# Altium schematic symbol library Intercom Gen2 Main PCB.SCHLIB: 188 symbols (part 2 of 2)
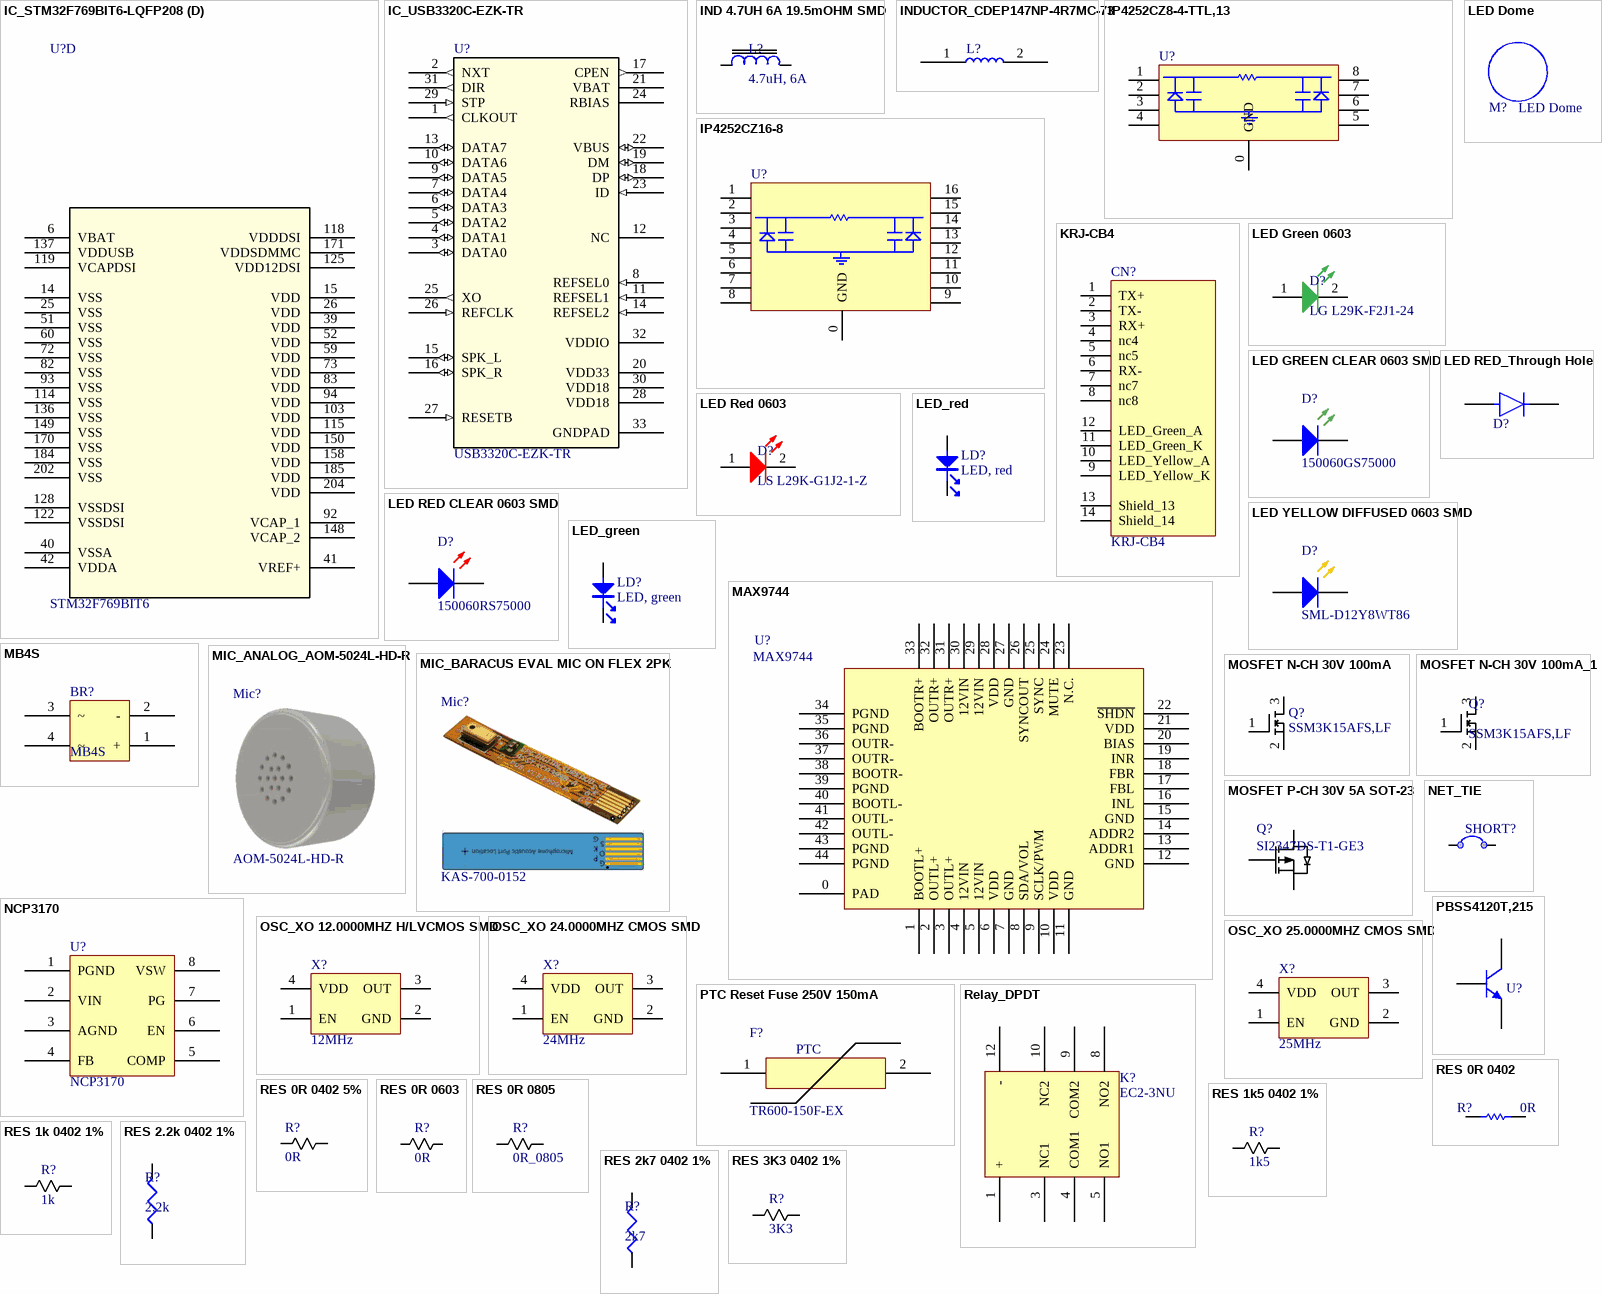
[diagram p5: symbols IC_STM32F769BIT6-LQFP208 to RES 3K3 0402 1%]

## OSC_XO 24.0000MHZ CMOS SMD
designator X?, comment 24MHz
24MHz XO (Standard) CMOS Oscillator 1.6V ~ 3.63V Standby (Power Down) 4-SMD, No Lead; Manufacturer: Kyocera International Inc. Electronic Components; Manufacturer Part Number: KC2520B24.0000C10E00; Manufacturer Link: https://global.kyocera.com/prdct/electro/product/pdf/kc2520b_c1_e.pdf; Value: 24MHz; RoHS: ROHS3 Compliant; Temperature Range: -10°C~70°C; Supplier 1: Digi-Key; Supplier 2: Mouser; Supplier Part Number 1: 478-4778-1-ND; Supplier Part Number 2: 815-ABM3B-24-B2
footprint OSC_SMD-4 (Kyocera KC2520B-C1 Series)
footprint HS-OSC_SMD-4 (HS variant for Kyocera KC2520B-C1 Series)
pins: 1 EN, 2 GND, 3 OUT, 4 VDD

## OSC_XO 25.0000MHZ CMOS SMD
designator X?, comment 25MHz
25MHz XO (Standard) CMOS Oscillator 1.6V ~ 3.63V Standby (Power Down) 4-SMD, No Lead; Manufacturer: Kyocera International Inc. Electronic Components; Manufacturer Part Number: KC2520B25.0000C10E00; Manufacturer Link: https://global.kyocera.com/prdct/electro/product/pdf/kc2520b_c1_e.pdf; Value: 25MHz; RoHS: ROHS3 Compliant; Temperature Range: -10°C~70°C; Supplier 1: Digi-Key; Supplier 2: Mouser; Supplier Part Number 1: 478-4780-1-ND; Supplier Part Number 2: 581-KC2520B25.0C10
footprint OSC_SMD-4 (Kyocera KC2520B-C1 Series)
footprint HS-OSC_SMD-4 (HS variant for Kyocera KC2520B-C1 Series)
pins: 1 EN, 2 GND, 3 OUT, 4 VDD

## PBSS4120T,215
designator U?  (value not drawn)
Bipolar (BJT) Transistor NPN 20V 1A 100MHz 480mW Surface Mount TO-236AB; Manufacturer: Nexperia USA Inc.; Value: PBSS4120T,215; Manufacturer Link: https://assets.nexperia.com/documents/data-sheet/PBSS4120T.pdf; Manufacturer Part Number: PBSS4120T,215; RoHS: 3; Temperature Range: 150°C (TJ); Supplier 1: Digi-Key; Supplier 2: Mouser; Supplier Part Number 1: 1727-3938-1-ND; Supplier Part Number 2: 771-PBSS4120T215
footprint SOT-23-3
pins: 1 B, 2 E, 3 C

## PTC Reset Fuse 250V 150mA
designator F?, comment TR600-150F-EX
Polymeric PTC Resettable Fuse 250V (600V Int) 150mA Ih Through Hole Radial, Disc; Manufacturer: Littelfuse Inc.; Value: TR600-150F-EX; Manufacturer Link: https://www.littelfuse.com/~/media/electronics/product_specifications/resettable_ptcs/littelfuse_ptc_tr600_150f_ex_product_specification.pdf.pdf; Manufacturer Part Number: TR600-150F-EX; RoHS: 3; Temperature Range: -40°C ~ 85°C; Supplier 1: Digi-Key; Supplier 2: Mouser; Supplier Part Number 1: TR600-150F-EX-ND; Supplier Part Number 2: 650-TR600-150F-EX
footprint PolySwitch TR600
pins: 1, 2
text: PTC

## Relay_DPDT
designator K?, comment EC2-3NU
RELAY GEN PURPOSE DPDT 2A 3VDC; Manufacturer: KEMET; Value: EC2-3NU; Manufacturer Link: https://api.kemet.com/component-edge/download/datasheet/EC2-3NU.pdf; Manufacturer Part Number: EC2-3NU; RoHS: 3; Temperature Range: -40°C ~ 85°C; Supplier 1: Digi-Key; Supplier 2: Mouser; Supplier Part Number 1: 399-11042-5-ND; Supplier Part Number 2: 80-EC2-3NU
footprint Relay_DPDT_EC2-3NU
pins: 1 +, 3 NC1, 4 COM1, 5 NO1, 8 NO2, 9 COM2, 10 NC2, 12 -

## RES 0R 0402
designator R?, comment 0R
RES 0.0 OHM 1/16W JUMP 0402 SMD; Manufacturer: Vishay Dale; Manufacturer Part Number: CRCW04020000Z0ED; Manufacturer Link: http://www.vishay.com/docs/20035/dcrcwe3.pdf; Value: 0R; Supplier 1: Digi-Key; Supplier 2: Mouser; Supplier Part Number 1: 541-0.0JCT-ND; Supplier Part Number 2: 71-CRCW0402-0-E3; RoHS: Y; Temperature Range: -55~+155°C
footprint RES_0402
footprint HS-RES_0402
pins: 1, 2

## RES 0R 0402 5%
designator R?, comment 0R
RES 0.0 OHM 1/16W JUMP 0402 SMD; Manufacturer: Vishay Dale; Manufacturer Part Number: CRCW04020000Z0ED; Manufacturer Link: http://www.vishay.com/docs/20035/dcrcwe3.pdf; Value: 0R; Supplier 1: Digi-Key; Supplier 2: Mouser; Supplier Part Number 1: 541-0.0JCT-ND; Supplier Part Number 2: 71-CRCW0402-0-E3; RoHS: ROHS3 Compliant; Temperature Range: -55°C ~ 155°C
footprint RES_0402
footprint HS-RES_0402
pins: 1, 2

## RES 0R 0603
designator R?, comment 0R
RES SMD 0.0OHM JUMPER  0603 1/10W; Manufacturer: Yageo; Manufacturer Part Number: RC0603FR-070RL; Manufacturer Link: http://www.yageo.com/documents/recent/PYu-RC_Group_51_RoHS_L_04.pdf; Value: 0R; Supplier 1: Digi-Key; Supplier 2: Mouser; Supplier Part Number 1: 311-0.0HRCT-ND; Supplier Part Number 2: 603-RC0603FR-070RL
footprint RES_0603 (0.18 spacing)
pins: 1, 2

## RES 0R 0805
designator R?, comment 0R_0805
0 Ohms Jumper 0.125W, 1/8W Chip Resistor 0805 (2012 Metric)  Thick Film; Manufacturer: Yageo; Manufacturer Part Number: RC0805JR-070RL; Manufacturer Link: https://www.yageo.com/upload/media/product/productsearch/datasheet/rchip/PYu-RC_Group_51_RoHS_L_10.pdf; Value: 0R_0805; Supplier 1: Digi-Key; Supplier 2: Mouser; Supplier Part Number 2: 603-RC0805JR-070RL; RoHS: ROHS3 Compliant; Temperature Range: -55°C ~ 155°C; Supplier Part Number 1: 311-0.0ARCT-ND
footprint HS-RES_0805
footprint RES_0805
pins: 1, 2

## RES 1k5 0402 1%
designator R?, comment 1k5
RES 1.50K OHM 1/16W 1% 0402 SMD; Manufacturer: Vishay Dale; Manufacturer Part Number: CRCW04021K50FKED; Manufacturer Link: http://www.vishay.com/docs/20035/dcrcwe3.pdf; Value: 1k5; Supplier 1: Digi-Key; Supplier 2: Mouser; Supplier Part Number 1: 541-1.50KLCT-ND; Supplier Part Number 2: 71-CRCW0402-1.5K
footprint RES_0402
footprint HS-RES_0402
pins: 1, 2

## RES 1k 0402 1%
designator R?, comment 1k
RES SMD 1K OHM 1% 1/16W 0402; Manufacturer: Vishay Dale; Manufacturer Part Number: CRCW04021K00FKED; Manufacturer Link: http://www.vishay.com/docs/20035/dcrcwe3.pdf; Value: 1k; Supplier 1: Digi-Key; Supplier Part Number 1: 541-1.00KLCT-ND; Supplier 2: Mouser; Supplier Part Number 2: 71-CRCW0402-1.0K
footprint RES_0402
footprint HS-RES_0402
pins: 1, 2

## RES 2.2k 0402 1%
designator R?, comment 2.2k
RES SMD 2.2K OHM 1% 1/16W 0402; Manufacturer: Vishay Dale; Manufacturer Part Number: CRCW04022K20FKED; Manufacturer Link: http://www.vishay.com/docs/20035/dcrcwe3.pdf; Value: 2.2k; Supplier 1: Digi-Key; Supplier 2: Mouser; Supplier Part Number 1: 541-2.20KLCT-ND; Supplier Part Number 2: 71-CRCW0402-2.2K-E3
footprint RES_0402
footprint HS-RES_0402
pins: 1, 2

## RES 2k7 0402 1%
designator R?, comment 2k7
RES SMD 2.7K OHM 1% 1/16W 0402; Manufacturer: Vishay Dale; Manufacturer Part Number: CRCW04022K70FKED; Manufacturer Link: http://www.vishay.com/docs/20035/dcrcwe3.pdf; Value: 2k7; Supplier 1: Digi-Key; Supplier 2: Mouser; Supplier Part Number 1: 541-2.70KLCT-ND; Supplier Part Number 2: 71-CRCW0402-2.7K
footprint RES_0402
footprint HS-RES_0402
pins: 1, 2

## RES 3K3 0402 1%
designator R?, comment 3K3
3.3 kOhms ±1% 0.1W, 1/10W Chip Resistor 0402 (1005 Metric) Automotive AEC-Q200 Thick Film; Manufacturer: Panasonic Electronic Components; Manufacturer Part Number: ERJ-2RKF3301X; Manufacturer Link: https://industrial.panasonic.com/cdbs/www-data/pdf/RDA0000/AOA0000C304.pdf; Value: 3K3; RoHS: Y; Temperature Range: -55°C ~ 155°C; Supplier 1: Digi-Key; Supplier 2: Mouser; Supplier Part Number 1: P3.30KLCT-ND; Supplier Part Number 2: 667-ERJ-2RKF3301X
footprint RES_0402
footprint HS-RES_0402
pins: 1, 2

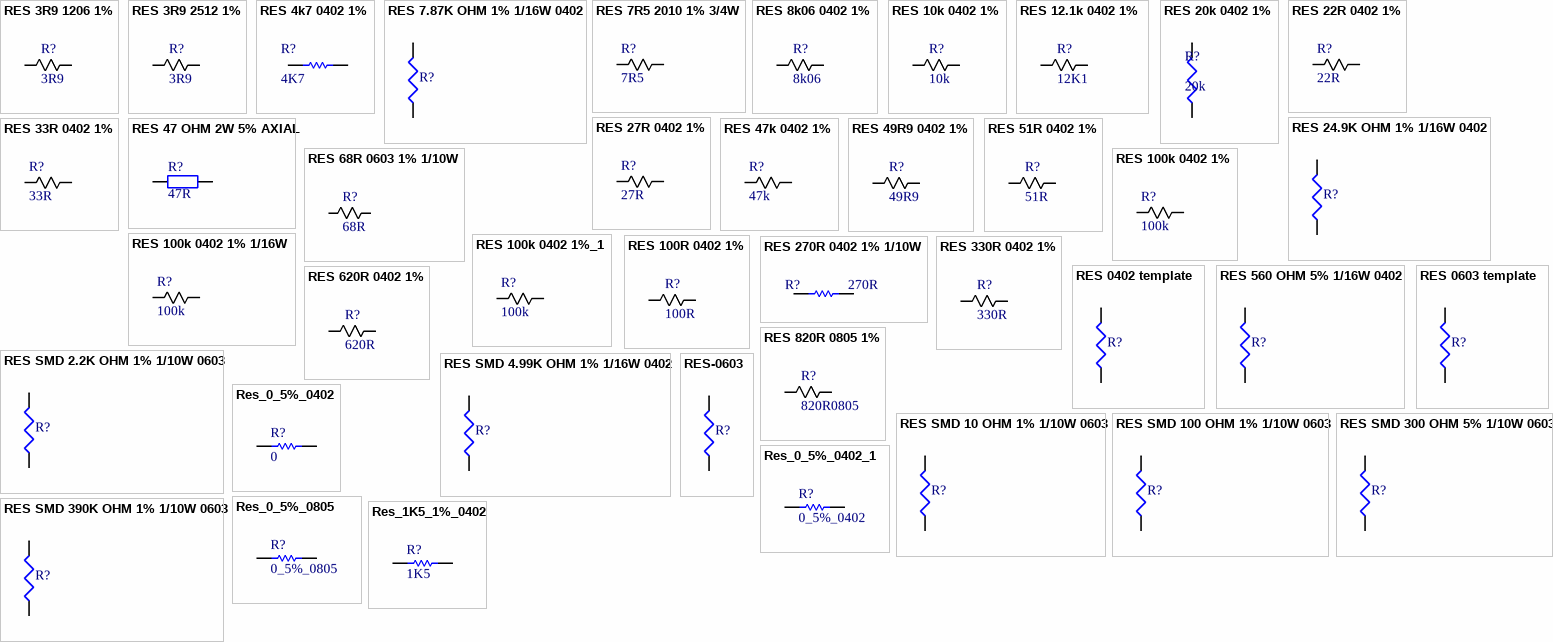
[diagram p3: symbols RES 3R9 1206 1% to Res_1K5_1%_0402]

## RES 3R9 1206 1%
designator R?, comment 3R9
RES SMD 3.9 OHM 1% 3/4W 1206; Manufacturer: Vishay Dale; Manufacturer Part Number: CRCW12063R90FKEAHP; Manufacturer Link: https://www.vishay.com/docs/20043/crcwhpe3.pdf; Value: 3R9; Temperature Range: -55°C~155°C; RoHS: ROHS3; Supplier 1: Digi-Key; Supplier 2: Mouser; Supplier Part Number 1: 541-3.90UCT-ND; Supplier Part Number 2: 603-RC0603FR-073R9L
footprint RES_1206
pins: 1, 2

## RES 3R9 2512 1%
designator R?, comment 3R9
RES SMD 3R9 OHM 1% 1W 2512; Manufacturer: Vishay Dale; Manufacturer Part Number: CRCW25123R90FKEG; Manufacturer Link: https://www.vishay.com/docs/20035/dcrcwe3.pdf; Value: 3R9; Temperature Range: -55°C~155°C; RoHS: ROHS3; Supplier 1: Digi-Key; Supplier 2: Mouser; Supplier Part Number 1: 541-3.90AFCT-ND; Supplier Part Number 2: 71-CRCW25123R90FKEG
footprint RES_2512
pins: 1, 2

## RES 4k7 0402 1%
designator R?, comment 4K7
RES SMD 4.7K OHM 1% 1/16W 0402; Manufacturer: Yageo; Manufacturer Part Number: RC0402FR-074K7L; Manufacturer Link: http://www.yageo.com/documents/recent/PYu-RC_Group_51_RoHS_L_10.pdf; Value: 4K7; RoHS: Y; Temperature Range: -55°C ~ 155°C; Supplier 1: Digi-Key; Supplier Part Number 1: 311-4.7KLRCT-ND; Supplier 2: Mouser; Supplier Part Number 2: 603-RC0603FR-074K7L
footprint RES_0402
footprint HS-RES_0402
pins: 1, 2

## RES 7.87K OHM 1% 1/16W 0402
designator R?, comment 7K87  (value not drawn)
7.87 kOhms ±1% 0.063W, 1/16W Chip Resistor 0402 (1005 Metric) Automotive AEC-Q200 Thick Film; Manufacturer: Stackpole Electronics Inc; Manufacturer Part Number: RMCF0402FT7K87; Value: 7K87; Manufacturer Link: https://www.seielect.com/catalog/sei-rmcf_rmcp.pdf; RoHS: 3; Temperature Range: -55°C ~ 155°C; Supplier 1: Digi-Key; Supplier 2: Arrow Electronics; Supplier Part Number 1: RMCF0402FT7K87CT-ND; Supplier Part Number 2: RMCF0402FT7K87
footprint RES_0402
footprint HS-RES_0402
pins: 1, 2

## RES 7R5 2010 1% 3/4W
designator R?, comment 7R5
7.5 Ohms ±1% 0.75W, 3/4W Chip Resistor 2010 (5025 Metric) Automotive AEC-Q200 Thick Film; Manufacturer: Stackpole Electronics Inc; Manufacturer Part Number: RMCF2010FT7R50CT-ND; Manufacturer Link: https://www.seielect.com/catalog/sei-rmcf_rmcp.pdf; Value: 7R5; Temperature Range: -55°C~155°C; RoHS: ROHS3; Supplier 1: Digi-Key; Supplier 2: Arrow Electronics; Supplier Part Number 1: RMCF2010FT7R50CT-ND; Supplier Part Number 2: ERJ8BQF7R5V
footprint RES_2010
pins: 1, 2

## RES 8k06 0402 1%
designator R?, comment 8k06
RES 6.65K OHM 1/16W 1% 0402 SMD; Manufacturer: Vishay Dale; Manufacturer Part Number: CRCW04028K06FKED; Manufacturer Link: http://www.vishay.com/docs/20035/dcrcwe3.pdf; Value: 8k06; RoHS: ROHS3 Compliant; Temperature Range: -55°C ~ 155°C; Supplier 1: Digi-Key; Supplier 2: Mouser; Supplier Part Number 1: 541-8.06KLCT-ND; Supplier Part Number 2: 71-CRCW0402-8.06K-E3
footprint RES_0402
footprint HS-RES_0402
pins: 1, 2

## RES 10k 0402 1%
designator R?, comment 10k
RES 10.0K OHM 1/16W 1% 0402 SMD; Manufacturer: Vishay Dale; Manufacturer Part Number: CRCW040210K0FKED; Manufacturer Link: http://www.vishay.com/docs/20035/dcrcwe3.pdf; Value: 10k; Supplier 1: Digi-Key; Supplier Part Number 2: 71-CRCW0402-10K-E3; Supplier 2: Mouser; Supplier Part Number 1: 541-10.0KLCT-ND
footprint RES_0402
footprint HS-RES_0402
pins: 1, 2

## RES 12.1k 0402 1%
designator R?, comment 12K1
12.1 kOhms ±1% 0.1W, 1/10W Chip Resistor 0402 (1005 Metric) Automotive AEC-Q200 Thick Film; Manufacturer: Panasonic Electronic Components; Manufacturer Part Number: ERJ-2RKF1212X; Manufacturer Link: https://b2b-api.panasonic.eu/file_stream/pids/fileversion/1263; Value: 12K1; RoHS: ROHS3 Compliant; Temperature Range: -55°C ~ 155°C; Supplier 1: Digi-Key; Supplier 2: Newark; Supplier Part Number 1: P12.1KLCT-ND; Supplier Part Number 2: 73T6472
footprint RES_0402
footprint HS-RES_0402
pins: 1, 2

## RES 20k 0402 1%
designator R?, comment 20k
RES 20.0K OHM 1/16W 1% 0402 SMD; Manufacturer: Vishay Dale; Manufacturer Part Number: CRCW040220K0FKED; Manufacturer Link: http://www.vishay.com/docs/20035/dcrcwe3.pdf; Value: 20k; Supplier 1: Digi-Key; Supplier 2: Mouser; Supplier Part Number 1: 541-20.0KLCT-ND; Supplier Part Number 2: 71-CRCW0402-20K
footprint RES_0402
footprint HS-RES_0402
pins: 1, 2

## RES 22R 0402 1%
designator R?, comment 22R
RES SMD 22 OHM 1% 1/16W 0402; Manufacturer: Vishay Dale; Manufacturer Part Number: CRCW040222R0FKED; Manufacturer Link: http://www.vishay.com/docs/20035/dcrcwe3.pdf; Value: 22R; Supplier 1: Digi-Key; Supplier 2: Mouser; Supplier 3: Newark; Supplier Part Number 1: 541-22.0LCT-ND; Supplier Part Number 2: 71-CRCW0402-22-E3; Supplier Part Number 3: 52K6847
footprint RES_0402
footprint HS-RES_0402
pins: 1, 2

## RES 24.9K OHM 1% 1/16W 0402
designator R?, comment 24K9  (value not drawn)
24.9 kOhms ±1% 0.063W, 1/16W Chip Resistor 0402 (1005 Metric) Automotive AEC-Q200 Thick Film; Manufacturer: Stackpole Electronics Inc; Manufacturer Part Number: RMCF0402FT24K9; Value: 24K9; Manufacturer Link: https://www.seielect.com/catalog/sei-rmcf_rmcp.pdf; RoHS: 3; Temperature Range: -55°C ~ 155°C; Supplier 1: Digi-Key; Supplier 2: Arrow Electronics; Supplier Part Number 1: RMCF0402FT24K9CT-ND; Supplier Part Number 2: RMCF0402FT24K9
footprint RES_0402
footprint HS-RES_0402
pins: 1, 2

## RES 27R 0402 1%
designator R?, comment 27R
27 Ohms ±1% 0.063W, 1/16W Chip Resistor 0402 (1005 Metric) Automotive AEC-Q200 Thick Film; Manufacturer: Vishay Dale; Manufacturer Part Number: CRCW040227R0FKED; Manufacturer Link: http://www.vishay.com/docs/20035/dcrcwe3.pdf; Value: 27R; RoHS: ROHS3 Compliant; Temperature Range: -55°C ~ 155°C; Supplier 1: Digi-Key; Supplier 2: Mouser; Supplier Part Number 1: 541-27.0LCT-ND; Supplier Part Number 2: 71-CRCW040227R0FKED
footprint RES_0402
footprint HS-RES_0402
pins: 1, 2

## RES 33R 0402 1%
designator R?, comment 33R
RES SMD 33 OHM 1% 1/16W 0402; Manufacturer: Vishay Dale; Manufacturer Part Number: CRCW040233R0FKED; Manufacturer Link: https://www.vishay.com/docs/20035/dcrcwe3.pdf; Value: 33R; RoHS: ROHS3 Compliant; Temperature Range: -55°C ~ 155°C; Supplier 1: Digi-Key; Supplier 2: Mouser; Supplier Part Number 1: 541-33.0LCT-ND; Supplier Part Number 2: 71-CRCW0402-33-E3
footprint RES_0402
footprint HS-RES_0402
pins: 1, 2

## RES 47 OHM 2W 5% AXIAL
designator R?, comment 47R
47 Ohms ±5% 2W Through Hole Resistor Axial Flame Retardant Coating, Safety Metal Oxide Film; Manufacturer: Stackpole Electronics Inc; Manufacturer Part Number: RSF2JT47R0; Value: 47R; Manufacturer Link: https://www.seielect.com/catalog/sei-rsf_rsmf.pdf; RoHS: 3; Temperature Range: -55°C ~ 235°C; Supplier 1: Digi-Key; Supplier 2: Arrow Electronics; Supplier Part Number 1: RSF2JT47R0CT-ND; Supplier Part Number 2: RSF2JT47R0
footprint AXIAL-0.4 (Axial Device, Thru-Hole; 2 Leads; 0.4 in Pin Spacing)
footprint Axial 0.6
pins: 1, 2

## RES 47k 0402 1%
designator R?, comment 47k
RES SMD 47K OHM 1% 1/16W 0402; Manufacturer: Vishay Dale; Manufacturer Part Number: CRCW040247K0FKED; Manufacturer Link: http://www.vishay.com/docs/20035/dcrcwe3.pdf; Value: 47k; Supplier 1: Digi-Key; Supplier 2: Mouser; Supplier Part Number 1: 541-47.0KLCT-ND; Supplier Part Number 2: 71-CRCW0402-47K-E3; RoHS: ROHS3 Compliant; Temperature Range: -55°C ~ 155°C
footprint RES_0402
footprint HS-RES_0402
pins: 1, 2

## RES 49R9 0402 1%
designator R?, comment 49R9
49.9 Ohms ±1% 0.063W, 1/16W Chip Resistor 0402 (1005 Metric) Moisture Resistant Thick Film; Manufacturer: Yageo; Manufacturer Part Number: RC0402FR-0749R9L; Manufacturer Link: https://www.yageo.com/upload/media/product/productsearch/datasheet/rchip/PYu-RC_Group_51_RoHS_L_10.pdf; Value: 49R9; RoHS: ROHS3 Compliant; Temperature Range: -55°C ~ 155°C; Supplier 1: Digi-Key; Supplier 2: Mouser; Supplier Part Number 1: 311-49.9LRCT-ND; Supplier Part Number 2: 603-RC0402FR-0749R9L
footprint RES_0402
footprint HS-RES_0402
pins: 1, 2

## RES 51R 0402 1%
designator R?, comment 51R
RES SMD 51 OHM 1% 1/16W 0402; Manufacturer: Vishay Dale; Manufacturer Part Number: CRCW040251R0FKED; Manufacturer Link: http://www.vishay.com/docs/20035/dcrcwe3.pdf; Value: 51R; Supplier 1: Digi-Key; Supplier 2: Mouser; Supplier 3: Newark; Supplier Part Number 1: 541-51.0LCT-ND; Supplier Part Number 2: 71-CRCW040251R0FKED; Supplier Part Number 3: 72M6802
footprint RES_0402
footprint HS-RES_0402
pins: 1, 2

## RES 68R 0603 1% 1/10W
designator R?, comment 68R
68 Ohms ±1% 0.1W, 1/10W Chip Resistor 0603 (1608 Metric)  Thick Film; Manufacturer: Yageo; Manufacturer Part Number: RC0603FR-0768RL; Manufacturer Link: https://www.yageo.com/upload/media/product/productsearch/datasheet/rchip/PYu-RC_Group_51_RoHS_L_11.pdf; Value: 68R; Temperature Range: -55°C ~ 155°C; RoHS: ROHS3 Compliant; Supplier 1: Digi-Key; Supplier 2: Mouser; Supplier Part Number 1: 311-68.0HRCT-ND; Supplier Part Number 2: 603-RC0603FR-0768RL
footprint RES_0603 (0.18 spacing)
pins: 1, 2

## RES 100k 0402 1%
designator R?, comment 100k
RES 100K OHM 1/16W 1% 0402 SMD; Manufacturer: Vishay Dale; Manufacturer Part Number: CRCW0402100KFKED; Manufacturer Link: http://www.vishay.com/docs/20035/dcrcwe3.pdf; Value: 100k; Supplier 1: Digi-Key; Supplier 2: Mouser; Supplier Part Number 1: 541-100KLCT-ND; Supplier Part Number 2: 71-CRCW0402-100K; RoHS: ROHS3 Compliant; Temperature Range: -55°C ~ 155°C
footprint RES_0402
footprint HS-RES_0402
pins: 1, 2

## RES 100k 0402 1% 1/16W
designator R?, comment 100k
RES 100K OHM 1/16W 1% 0402 SMD; Manufacturer: Vishay Dale; Manufacturer Part Number: CRCW0402100KFKED; Temperature Coefficient: ±100ppm/°C; Manufacturer Link: http://www.vishay.com/docs/20035/dcrcwe3.pdf; Value: 100k; Supplier 1: Digi-Key; Supplier 2: Mouser; Supplier Part Number 1: 541-100KLCT-ND; Supplier Part Number 2: 71-CRCW0402-100K; Temperature Range: -55~+155°C; RoHS: Y
footprint RES_0402
footprint HS-RES_0402
pins: 1, 2

## RES 100k 0402 1%_1
designator R?, comment 100k
RES 100K OHM 1/16W 1% 0402 SMD; Manufacturer: Vishay Dale; Manufacturer Part Number: CRCW0402100KFKED; Manufacturer Link: http://www.vishay.com/docs/20035/dcrcwe3.pdf; Value: 100k; Supplier 1: Digi-Key; Supplier 2: Mouser; Supplier Part Number 1: 541-100KLCT-ND; Supplier Part Number 2: 71-CRCW0402-100K
footprint RES_0402
footprint HS-RES_0402
pins: 1, 2

## RES 100R 0402 1%
designator R?, comment 100R
RES SMD 100 OHM 1% 1/16W 0402; Manufacturer: Vishay Dale; Manufacturer Part Number: CRCW0402100RFKED; Manufacturer Link: http://www.vishay.com/docs/20035/dcrcwe3.pdf; Value: 100R; Supplier 1: Digi-Key; Supplier 2: Mouser; Supplier 3: Newark; Supplier Part Number 1: 541-100LCT-ND; Supplier Part Number 2: 71-CRCW0402-100-E3; Supplier Part Number 3: 52K6609
footprint RES_0402
footprint HS-RES_0402
pins: 1, 2

## RES 270R 0402 1% 1/10W
designator R?, comment 270R
270 Ohms ±1% 0.1W, 1/10W Chip Resistor 0402 (1005 Metric) Automotive AEC-Q200 Thick Film; Manufacturer: Panasonic Electronic Components; Manufacturer Part Number: ERJ-2RKF2700X; Manufacturer Link: https://industrial.panasonic.com/cdbs/www-data/pdf/RDA0000/AOA0000C304.pdf; Value: 270R; RoHS: Y; Temperature Range: -55~+155°C; Supplier 1: Digi-Key; Supplier Part Number 1: P270LCT-ND; Supplier 2: Mouser; Supplier Part Number 2: 667-ERJ-2RKF2700X
footprint RES_0402
footprint HS-RES_0402
pins: 1, 2

## RES 330R 0402 1%
designator R?, comment 330R
330 Ohms ±1% 0.063W, 1/16W Chip Resistor 0402 (1005 Metric) Moisture Resistant Thick Film; Manufacturer: Yageo; Manufacturer Part Number: RC0402FR-07330RL; Manufacturer Link: https://www.yageo.com/upload/media/product/productsearch/datasheet/rchip/PYu-RC_Group_51_RoHS_L_10.pdf; Value: 330R; RoHS: ROHS3 Compliant; Temperature Range: -55°C ~ 155°C; Supplier 1: Digi-Key; Supplier 2: Mouser; Supplier Part Number 1: 311-330HRCT-ND; Supplier Part Number 2: 603-RC0603FR-07330RL
footprint RES_0402
footprint HS-RES_0402
pins: 1, 2

## RES 0402 template
designator R?
footprint RES_0402
footprint HS-RES_0402
pins: 1, 2

## RES 560 OHM 5% 1/16W 0402
designator R?, comment 560R  (value not drawn)
560 Ohms ±5% 0.063W, 1/16W Chip Resistor 0402 (1005 Metric)  Thick Film; Manufacturer: Yageo; Manufacturer Part Number: RC0402JR-07560RL; Value: 560R; Manufacturer Link: https://www.yageo.com/upload/media/product/productsearch/datasheet/rchip/PYu-RC_Group_51_RoHS_L_10.pdf; RoHS: 3; Temperature Range: -55°C ~ 155°C; Supplier 1: Digi-Key; Supplier 2: Mouser; Supplier Part Number 1: 311-560JRCT-ND; Supplier Part Number 2: 603-RC0402JR-07560RL
footprint RES_0402
footprint HS-RES_0402
pins: 1, 2

## RES 0603 template
designator R?
footprint RES-0603
pins: 1, 2

## RES 620R 0402 1%
designator R?, comment 620R
620 Ohms ±1% 0.063W, 1/16W Chip Resistor 0402 (1005 Metric) Automotive AEC-Q200 Thick Film; Manufacturer: Vishay Dale; Manufacturer Part Number: CRCW0402620RFKED; Manufacturer Link: http://www.vishay.com/docs/20035/dcrcwe3.pdf; Value: 620R; Temperature Range: -55°C ~ 155°C; RoHS: Y; Supplier 1: Digi-Key; Supplier 2: Mouser; Supplier Part Number 1: 541-620LCT-ND; Supplier Part Number 2: 667-ERA-6AEB621V
footprint RES_0402
footprint HS-RES_0402
pins: 1, 2

## RES 820R 0805 1%
designator R?, comment 820R0805
820 Ohms ±1% 0.125W, 1/8W Chip Resistor 0805 (2012 Metric) Automotive AEC-Q200 Thick Film; Manufacturer: Vishay Dale; Manufacturer Part Number: CRCW0805820RFKEA; Manufacturer Link: http://www.vishay.com/docs/20035/dcrcwe3.pdf; Value: 820R0805; Temperature Range: -55°C ~ 155°C; RoHS: Y; Supplier 1: Digi-Key; Supplier 2: Mouser; Supplier Part Number 1: 541-820CCT-ND; Supplier Part Number 2: 71-CRCW0402-820-E3
footprint RES-0805
pins: 1, 2

## RES SMD 2.2K OHM 1% 1/10W 0603
designator R?, comment 2k2  (value not drawn)
2.2 kOhms ±1% 0.1W, 1/10W Chip Resistor 0603 (1608 Metric)  Thick Film; Manufacturer: Yageo; Manufacturer Part Number: RC0603FR-072K2L; Value: 2k2; Manufacturer Link: https://www.yageo.com/upload/media/product/productsearch/datasheet/rchip/PYu-RC_Group_51_RoHS_L_10.pdf; Supplier 1: Digi-Key; Supplier 2: Mouser; Supplier Part Number 1: 311-2.20KHRCT-ND; Supplier Part Number 2: 603-RC0603FR-072K2L
footprint RES-0603
pins: 1, 2

## RES SMD 4.99K OHM 1% 1/16W 0402
designator R?, comment 4K99  (value not drawn)
4.99 kOhms ±1% 0.063W, 1/16W Chip Resistor 0402 (1005 Metric)  Thick Film; Manufacturer: Yageo; Manufacturer Part Number: RC0402FR-074K99L; Value: 4K99; Manufacturer Link: https://www.yageo.com/upload/media/product/productsearch/datasheet/rchip/PYu-RC_Group_51_RoHS_L_10.pdf; RoHS: 3; Temperature Range: -55°C ~ 155°C; Supplier 1: Digi-Key; Supplier 2: Mouser; Supplier Part Number 1: 311-4.99KLRCT-ND; Supplier Part Number 2: 603-RC0402FR-074K99L
footprint RES_0402
footprint HS-RES_0402
pins: 1, 2

## RES SMD 10 OHM 1% 1/10W 0603
designator R?, comment 10R  (value not drawn)
10 Ohms ±1% 0.1W, 1/10W Chip Resistor 0603 (1608 Metric)  Thick Film; Manufacturer: Yageo; Manufacturer Part Number: RC0603FR-0710RL; Value: 10R; Manufacturer Link: https://www.yageo.com/upload/media/product/productsearch/datasheet/rchip/PYu-RC_Group_51_RoHS_L_10.pdf; RoHS: 3; Temperature Range: -55°C ~ 155°C; Supplier 1: Digi-Key; Supplier 2: Mouser; Supplier Part Number 1: 311-10.0HRCT-ND; Supplier Part Number 2: 603-RC0603FR-0710RL
footprint RES-0603
pins: 1, 2

## RES SMD 100 OHM 1% 1/10W 0603
designator R?, comment 100R  (value not drawn)
100 Ohms ±1% 0.1W, 1/10W Chip Resistor 0603 (1608 Metric)  Thick Film; Manufacturer: Yageo; Manufacturer Part Number: RC0603FR-07100RL; Value: 100R; Manufacturer Link: https://www.yageo.com/upload/media/product/productsearch/datasheet/rchip/PYu-RC_Group_51_RoHS_L_10.pdf; RoHS: 3; Temperature Range: -55°C ~ 155°C; Supplier 1: Digi-Key; Supplier 2: Mouser; Supplier Part Number 1: 311-100HRCT-ND; Supplier Part Number 2: 603-RC0603FR-07100RL
footprint RES-0603
pins: 1, 2

## RES SMD 300 OHM 5% 1/10W 0603
designator R?, comment 300R  (value not drawn)
300 Ohms ±5% 0.1W, 1/10W Chip Resistor 0603 (1608 Metric)  Thick Film; Manufacturer: Yageo; Manufacturer Part Number: RC0603JR-07300RL; Value: 300R; Manufacturer Link: https://www.yageo.com/upload/media/product/productsearch/datasheet/rchip/PYu-RC_Group_51_RoHS_L_10.pdf; RoHS: 3; Temperature Range: -55°C ~ 155°C; Supplier 1: Digi-Key; Supplier 2: Mouser; Supplier Part Number 1: 311-300GRCT-ND; Supplier Part Number 2: 603-RC0603JR-07300RL
footprint RES-0603
pins: 1, 2

## RES SMD 390K OHM 1% 1/10W 0603
designator R?, comment 390K  (value not drawn)
390 kOhms ±1% 0.1W, 1/10W Chip Resistor 0603 (1608 Metric)  Thick Film; Manufacturer: Yageo; Manufacturer Part Number: RC0603FR-07390KL; Value: 390K; Manufacturer Link: https://www.yageo.com/upload/media/product/productsearch/datasheet/rchip/PYu-RC_Group_51_RoHS_L_10.pdf; RoHS: 3; Temperature Range: -55°C ~ 155°C; Supplier 1: Digi-Key; Supplier 2: Mouser; Supplier Part Number 1: 311-390KHRCT-ND; Supplier Part Number 2: 603-RC0603FR-07390KL
footprint RES-0603
pins: 1, 2

## RES-0603
designator R?  (value not drawn)
Value: 24.9K
footprint RES-0603
pins: 1, 2

## Res_0_5%_0402
designator R?, comment 0
Resistor,0,0402,5%,YAGEO; Manuf_Part_1: RC0402JR-070RL; Order: 2363467; Value: 0; ECCN_US/EU: n/a; Manuf_1: YAGEO; Distrib: FARNELL
footprint 0402R
pins: 1, 2

## Res_0_5%_0402_1
designator R?, comment 0_5%_0402
Resistor,0,0402,5%,YAGEO; Manuf_Part_1: RC0402JR-070RL; Value: 0; Order: 2363467; ECCN_US/EU: n/a; Manuf_1: YAGEO; Distrib: FARNELL
footprint 0402R
pins: 1, 2

## Res_0_5%_0805
designator R?, comment 0_5%_0805
Resistor,0,0805,5%,YAGEO; Manuf_Part_1: RC0805JR-070RL; Value: 0; Order: 2363489; ECCN_US/EU: n/a; Manuf_1: YAGEO
footprint 0805R (Footprint not found)
pins: 1, 2

## Res_1K5_1%_0402
designator R?, comment 1K5
Resistor,1K5,0402,1%,YAGEO; Manuf_Part_1: RC0402FR-071K5L; Value: 1K5; Manuf_1: YAGEO; Order: RC0402FR-071K5L; ECCN_US/EU: n/a; Distrib: FARNELL
footprint 0402R
footprint 0603R
footprint 0805R (Footprint not found)
footprint 0603R-GS
footprint 1206R (Footprint not found)
pins: 1, 2

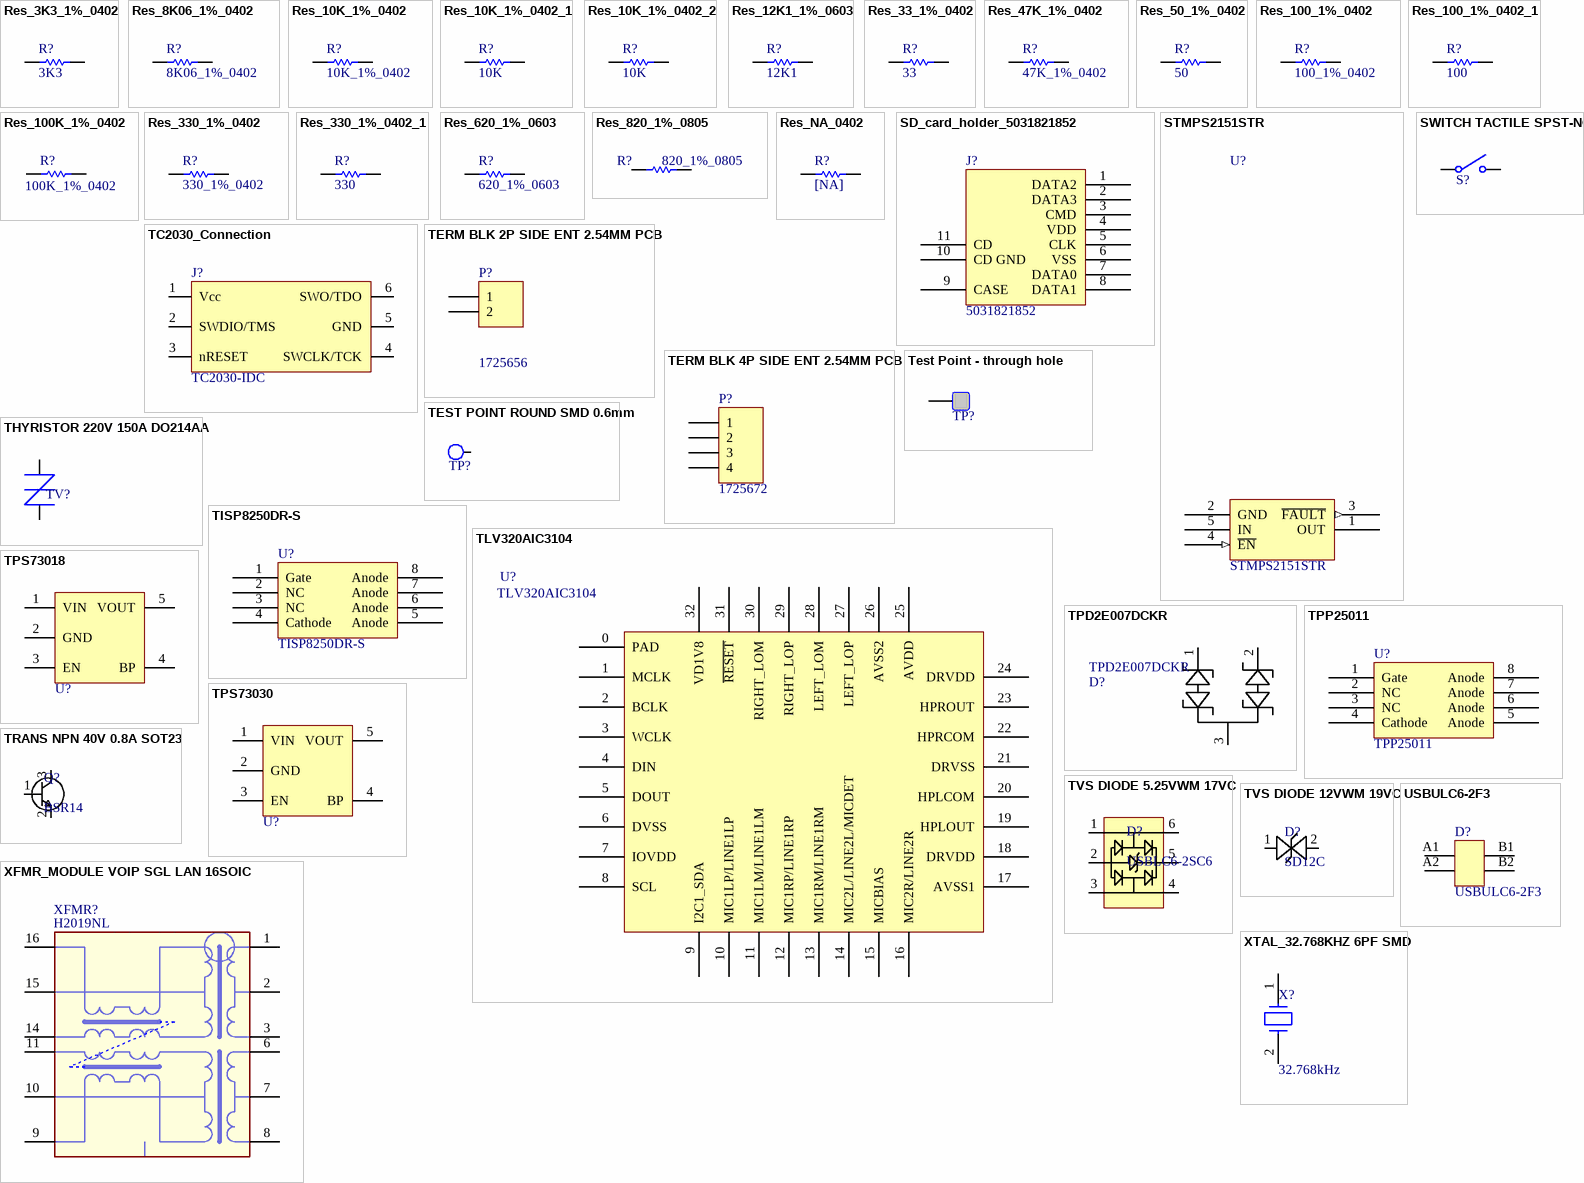
[diagram p4: symbols Res_3K3_1%_0402 to XTAL_32.768KHZ 6PF SMD]

## Res_3K3_1%_0402
designator R?, comment 3K3
Resistor,3K3,0402,1%,YAGEO; Manuf_Part_1: RC0402FR-073K3L; Value: 3K3; Manuf_1: YAGEO; Order: *; ECCN_US/EU: n/a; Distrib: FARNELL
footprint 0402R
footprint 0603R
footprint 0805R (Footprint not found)
footprint 0603R-GS
footprint 1206R (Footprint not found)
pins: 1, 2

## Res_8K06_1%_0402
designator R?, comment 8K06_1%_0402
Resistor,8K06,0402,1%,YAGEO; Manuf_Part_1: RC0402FR-078K06L; Value: 8K06; Manuf_1: YAGEO; Order: RC0402FR-078K06L; ECCN_US/EU: n/a; Distrib: DIGIKEY
footprint 0402R
footprint 0603R
footprint 0805R (Footprint not found)
footprint 0603R-GS
footprint 1206R (Footprint not found)
pins: 1, 2

## Res_10K_1%_0402
designator R?, comment 10K_1%_0402
Resistor,10K,0402,1%,YAGEO; Manuf_Part_1: RC0402FR-0710KL; Value: 10K; Manuf_1: YAGEO; Order: RC0402FR-0710KL; ECCN_US/EU: n/a
footprint 0402R
footprint 0603R
footprint 0805R (Footprint not found)
footprint 0603R-GS
footprint 1206R (Footprint not found)
pins: 1, 2

## Res_10K_1%_0402_1
designator R?, comment 10K
Resistor,10K,0402,1%,YAGEO; Manuf_Part_1: RC0402FR-0710KL; Value: 10K; Manuf_1: YAGEO; Order: RC0402FR-0710KL; ECCN_US/EU: n/a
footprint 0402R
footprint 0603R
footprint 0805R (Footprint not found)
footprint 0603R-GS
footprint 1206R (Footprint not found)
pins: 1, 2

## Res_10K_1%_0402_2
designator R?, comment 10K
Resistor,10K,0402,1%,YAGEO; Manuf_Part_1: RC0402FR-0710KL; Value: 10K; Manuf_1: YAGEO; Order: RC0402FR-0710KL; ECCN_US/EU: n/a
footprint 0402R
footprint 0603R
footprint 0805R (Footprint not found)
footprint 0603R-GS
footprint 1206R (Footprint not found)
pins: 1, 2

## Res_12K1_1%_0603
designator R?, comment 12K1
Resistor,12K1,0603,1%,VISHAY; Manuf_Part_1: MCT 0603-50 1% P5 12K1; Order: 2325243; Value: 12K1; ECCN_US/EU: n/a; Manuf_1: VISHAY; Distrib: FARNELL
footprint 0603R
footprint 0603R-GS
pins: 1, 2

## Res_33_1%_0402
designator R?, comment 33
Resistor,33,0402,1%,YAGEO; Manuf_Part_1: RC0402FR-0733RL; Value: 33; Manuf_1: YAGEO; Order: *; ECCN_US/EU: n/a; Distrib: FARNELL
footprint 0402R
footprint 0603R
footprint 0805R (Footprint not found)
footprint 0603R-GS
footprint 1206R (Footprint not found)
pins: 1, 2

## Res_47K_1%_0402
designator R?, comment 47K_1%_0402
Resistor,47K,0402,1%,YAGEO; Manuf_Part_1: RC0402FR-0747KL; Order: 9239430; Value: 47K; Manuf_1: YAGEO; ECCN_US/EU: n/a; Distrib: FARNELL
footprint 0402R
footprint 0603R
footprint 0805R (Footprint not found)
footprint 0603R-GS
footprint 1206R (Footprint not found)
pins: 1, 2

## Res_50_1%_0402
designator R?, comment 50
Resistor,50,0402,1%,YAGEO; Manuf_Part_1: RC0402FR-0750RL; Value: 50; Manuf_1: YAGEO; Order: *; ECCN_US/EU: n/a; Distrib: FARNELL
footprint 0402R
footprint 0603R
footprint 0805R (Footprint not found)
footprint 0603R-GS
footprint 1206R (Footprint not found)
pins: 1, 2

## Res_100_1%_0402
designator R?, comment 100_1%_0402
Resistor,100,0402,1%,YAGEO; Manuf_Part_1: RC0402FR-07100RL; Value: 100; Order: 9239111; Manuf_1: YAGEO; ECCN_US/EU: n/a; Distrib: FARNELL
footprint 0402R
footprint 0603R
footprint 0805R (Footprint not found)
footprint 0603R-GS
footprint 1206R (Footprint not found)
pins: 1, 2

## Res_100_1%_0402_1
designator R?, comment 100
Resistor,100,0402,1%,YAGEO; Manuf_Part_1: RC0402FR-07100RL; Order: 9239111; Value: 100; Manuf_1: YAGEO; ECCN_US/EU: n/a; Distrib: FARNELL
footprint 0402R
footprint 0603R
footprint 0805R (Footprint not found)
footprint 0603R-GS
footprint 1206R (Footprint not found)
pins: 1, 2

## Res_100K_1%_0402
designator R?, comment 100K_1%_0402
Resistor,100K,0402,1%,YAGEO; Manuf_Part_1: RC0402FR-07100KL; Manuf_Part_2: RT0402FRE07100KL; Value: 100K; Manuf_1: YAGEO; ECCN_US/EU: n/a; Manuf_2: YAGEO
footprint 0402R
footprint 0603R
footprint 0805R (Footprint not found)
footprint 0603R-GS
footprint 1206R (Footprint not found)
pins: 1, 2

## Res_330_1%_0402
designator R?, comment 330_1%_0402
Resistor,330,0402,1%,YAGEO; Manuf_Part_1: RC0402FR-07330RL; Value: 330; ECCN_US/EU: n/a; Manuf_1: YAGEO; Distrib: DIGIKEY; Order: RC0402FR-07330RL
footprint 0402R
pins: 1, 2

## Res_330_1%_0402_1
designator R?, comment 330
Resistor,330,0402,1%,YAGEO; Manuf_Part_1: RC0402FR-07330RL; Value: 330; ECCN_US/EU: n/a; Manuf_1: YAGEO; Distrib: DIGIKEY; Order: RC0402FR-07330RL
footprint 0402R
pins: 1, 2

## Res_620_1%_0603
designator R?, comment 620_1%_0603
Resistor,620,0603,1%,VISHAY; Manuf_Part_1: CRCW0603620RFKEA; Manuf_1: VISHAY DRALORIC; Value: 620; Order: 2122341; ECCN_US/EU: n/a; Distrib: FARNELL
footprint 0603R
footprint 0603R-GS
pins: 1, 2

## Res_820_1%_0805
designator R?, comment 820_1%_0805
Resistor,820,0805,1%,YAGEO; Manuf_Part_1: RC0805FR-07820RL; Value: 820; Manuf_1: YAGEO; Order: RC0805FR-07820RL; ECCN_US/EU: n/a
footprint 0402R
footprint 0603R
footprint 0805R (Footprint not found)
footprint 0603R-GS
footprint 1206R (Footprint not found)
pins: 1, 2

## Res_NA_0402
designator R?, comment [NA]
Resistor,[NA],0402; Fitted: NO; Value: [NA]; ECCN_US/EU: n/a
footprint 0402R
pins: 1, 2

## SD_card_holder_5031821852
designator J?, comment 5031821852
10 (8 + 2) Position Card Connector microSD™ Surface Mount, Right Angle Gold; Manufacturer: Molex; Value: 5031821852; Manufacturer Link: https://www.molex.com/pdm_docs/sd/5031821852_sd.pdf; Manufacturer Part Number: 5031821852; RoHS: 3; Temperature Range: *; Supplier 1: Digi-Key; Supplier 2: Mouser; Supplier Part Number 1: WM12834CT-ND; Supplier Part Number 2: 538-503182-1852
footprint SD_CARD_HOLDER_5031821852
pins: 1 DATA2, 2 DATA3, 3 CMD, 4 VDD (power), 5 CLK (power), 6 VSS (power), 7 DATA0, 8 DATA1, 9 CASE, 10 CD GND, 11 CD

## STMPS2151STR
designator U?
Power Switch/Driver 1:1 N-Channel 500mA SOT-23-5; Manufacturer: STMicroelectronics; Manufacturer Part Number: STMPS2151STR; Manufacturer Link: https://www.st.com/content/ccc/resource/technical/document/datasheet/e8/d7/48/25/eb/87/45/b3/CD00167470.pdf/files/CD00167470.pdf/jcr:content/translations/en.CD00167470.pdf; Value: STMPS2151STR; RoHS: ROHS3 Compliant; Temperature Range: -40°C ~ 125°C (TJ); Supplier 1: Mouser; Supplier Part Number 1: 511-STMPS2151STR
footprint SOT-23-5
pins: 1 OUT, 2 GND, 3 ~{FAULT} (out), 4 ~{EN} (in), 5 IN

## SWITCH TACTILE SPST-NO
designator S?, comment 1825027-8  (value not drawn)
Tactile Switch SPST-NO Side Actuated Through Hole 0.05A 24V, Right Angle; Manufacturer: TE Connectivity ALCOSWITCH Switches; Value: 1825027-8; Manufacturer Link: https://www.te.com/commerce/DocumentDelivery/DDEController?Action=srchrtrv&DocNm=1308111-1_SWITCHES_CORE_PROGRAM_CATALOG&DocType=CS&DocLang=English; Manufacturer Part Number: 1825027-8; RoHS: Y; Temperature Range: -35°C ~ 85°C; Supplier 1: Digi-Key; Supplier 2: Mouser; Supplier Part Number 1: 450-1657-ND; Supplier Part Number 2: 506-1825027-8
footprint TE SWITCH 1825027-8 (Tactile Switch SPST-NO Side Actuated Through Hole 0.05A 24V, Right Angle)
pins: 1 COMMON1, 2 COMMON2

## TC2030_Connection
designator J?, comment TC2030-IDC  (no BOM)
6-conductor cable fitted with a spring-pin Tag-Connector that plugs directly into your PCB and terminates in a 0.1” ribbon connector.; Manufacturer:: Tag-Connect; Manufacturer Part#:: TC2030-IDC; Manufacturer Link:: http://www.tag-connect.com/ARM20-CTX; Value: TC2030-IDC
footprint TC2030-IDC (Tag-Connect 6-Pin with Legs (PN# TC2030-IDC-NL))
footprint TC2030-IDC-NL (Tag-Connect 6-Pin with No Legs (PN# TC2030-IDC-NL))
pins: 1 Vcc, 2 SWDIO/TMS, 3 nRESET, 4 SWCLK/TCK, 5 GND, 6 SWO/TDO

## TERM BLK 2P SIDE ENT 2.54MM PCB
designator P?, comment 1725656
2 Position Wire to Board Terminal Block Horizontal with Board 0.100" (2.54mm) Through Hole; Manufacturer: Phoenix Contact; Value: 1725656; Manufacturer Link: https://media.digikey.com/pdf/Data%20Sheets/Phoenix%20Contact%20PDFs/1725656_Ds.pdf; Manufacturer Part Number: 1725656; RoHS: Y; Temperature Range: *; Supplier 1: Digi-Key; Supplier 2: Mouser; Supplier Part Number 1: 277-1273-ND; Supplier Part Number 2: 651-1725656
footprint 1725656 (2 Position Wire to Board Terminal Block Horizontal with Board 0.100" (2.54mm) Through Hole)
pins: 1, 2

## TERM BLK 4P SIDE ENT 2.54MM PCB
designator P?, comment 1725672
4 Position Wire to Board Terminal Block Horizontal with Board 0.100" (2.54mm) Through Hole; Manufacturer: Phoenix Contact; Value: 1725672; Manufacturer Link: https://media.digikey.com/pdf/Data%20Sheets/Phoenix%20Contact%20PDFs/1725672.pdf; Manufacturer Part Number: 1725672; RoHS: Y; Temperature Range: *; Supplier 1: Digi-Key; Supplier 2: Mouser; Supplier Part Number 1: 277-1275-ND; Supplier Part Number 2: 651-1725672
footprint 1725672 (4 Position Wire to Board Terminal Block Horizontal with Board 0.100" (2.54mm) Through Hole)
pins: 1, 2, 3, 4

## Test Point - through hole
designator TP?  (no BOM)
Test Point - through hole
footprint TEST POINT (Scope Probe Test Point)
pins: 1

## TEST POINT ROUND SMD 0.6mm
designator TP?, comment Test Point  (value not drawn)  (no BOM)
TEST POINT ROUND SMD 0.6mm
footprint TEST POINT ROUND SMD 0.6mm
pins: 1

## THYRISTOR 220V 150A DO214AA
designator TV?, comment P2600SALRP  (value not drawn)
220V Off-State Ipp TVS Thyristor DO-214AA, SMB; Manufacturer: Littelfuse Inc.; Value: P2600SALRP; Manufacturer Link: https://www.littelfuse.com/~/media/electronics/datasheets/sidactors/littelfuse_sidactor_do_214_datasheet.pdf.pdf; Manufacturer Part Number: P2600SALRP; RoHS: 3; Supplier 1: Digi-Key; Supplier 2: Mouser; Supplier Part Number 1: P2600SALRPCT-ND; Supplier Part Number 2: 576-P2600SALRP
footprint DO214AA
footprint HS-DO214AA (DO214AA)
pins: 1, 2

## TISP8250DR-S
designator U?
250V Off-State  Ipp TVS Thyristor 8-SOIC (0.154", 3.90mm Width); Manufacturer: Bourns Inc.; Value: TISP8250DR-S; Manufacturer Link: https://www.bourns.com/docs/Product-Datasheets/TISP8250.pdf; Manufacturer Part Number: TISP8250DR-S; RoHS: 3; Temperature Range: -40°~+150°C (TJ); Supplier 1: Digi-Key; Supplier 2: Mouser; Supplier Part Number 1: TISP8250DR-S-ND; Supplier Part Number 2: 652-TISP8250DR-S
footprint SOIC-8-150
pins: 1 Gate, 2 NC, 3 NC, 4 Cathode, 5 Anode, 6 Anode, 7 Anode, 8 Anode

## TLV320AIC3104
designator U?
Stereo Audio Interface 24 b I²C, Serial 32-VQFN (5x5); Manufacturer: Texas Instruments; Manufacturer Part Number: TLV320AIC3104IRHBR; Value: TLV320AIC3104; Manufacturer Link: http://www.ti.com/general/docs/suppproductinfo.tsp?distId=10&gotoUrl=http%3A%2F%2Fwww.ti.com%2Flit%2Fgpn%2Ftlv320aic3104; RoHS: 3; Temperature Range: -40°C ~ 85°C; Supplier 1: Digi-Key; Supplier 2: Mouser; Supplier Part Number 1: 296-26818-1-ND; Supplier Part Number 2: 595-TLV320C3104IRHBR
footprint RHB32_M (32-Pin Plastic Quad Flat No-Lead 0.5 mm Pitch, IPC Low Density)
footprint HS-RHB32_M (32-Pin Plastic Quad Flat No-Lead 0.5 mm Pitch, IPC Low Density)
footprint RHB0032E (32-Pin Plastic Quad Flat No-Lead 0.5 mm Pitch, Body 4.8mmx4.8mm, Thermal Pad 3.45mm)
pins: 0 PAD, 1 MCLK, 2 BCLK, 3 WCLK, 4 DIN, 5 DOUT, 6 DVSS, 7 IOVDD, 8 SCL, 9 I2C1_SDA, 10 MIC1LP/LINE1LP, 11 MIC1LM/LINE1LM, 12 MIC1RP/LINE1RP, 13 MIC1RM/LINE1RM, 14 MIC2L/LINE2L/MICDET, 15 MICBIAS, 16 MIC2R/LINE2R, 17 AVSS1, 18 DRVDD, 19 HPLOUT, 20 HPLCOM, 21 DRVSS, 22 HPRCOM, 23 HPROUT, 24 DRVDD, 25 AVDD, 26 AVSS2, 27 LEFT_LOP, 28 LEFT_LOM, 29 RIGHT_LOP, 30 RIGHT_LOM, 31 ~{RESET}, 32 VD1V8

## TPD2E007DCKR
designator D?
TVS DIODE 13V SC70-3; Manufacturer: Texas Instruments; Manufacturer Part Number: TPD2E007DCKR; Manufacturer Link: https://www.ti.com/lit/ds/symlink/tpd2e007.pdf?HQS=TI-null-null-digikeymode-df-pf-null-wwe&ts=1600795141321; Value: TPD2E007DCKR; RoHS: ROHS3 Compliant; Temperature Range: -40°C~85°C (TA); Supplier 1: DigiKey; Supplier Part Number 1: 296-25281-1-ND
footprint SOT-SC70 (SOT-SC70 (TI_DCK0003A) 3 leads-2.0x1.4x1.1mm)
pins: 1 IO1, 2 IO2, 3 GND

## TPP25011
designator U?
footprint SOIC-8-150
pins: 1 Gate, 2 NC, 3 NC, 4 Cathode, 5 Anode, 6 Anode, 7 Anode, 8 Anode

## TPS73018
designator U?  (value not drawn)
IC REG LINEAR 1.8V 200MA SOT23-5; Manufacturer: Texas Instruments; Manufacturer Part Number: TPS73018DBVT; Value: TPS73018; Manufacturer Link: http://www.ti.com/general/docs/suppproductinfo.tsp?distId=10&gotoUrl=http%3A%2F%2Fwww.ti.com%2Flit%2Fgpn%2Ftps730; RoHS: 3; Temperature Range: -40°C ~ 125°C; Supplier 1: Digi-Key; Supplier 2: Mouser; Supplier Part Number 1: 296-17577-1-ND; Supplier Part Number 2: 595-TPS73018DBVT
footprint SOT-23-5
pins: 1 VIN, 2 GND, 3 EN, 4 BP, 5 VOUT

## TPS73030
designator U?  (value not drawn)
IC REG LINEAR 3V 200MA SOT23-5; Manufacturer: Texas Instruments; Manufacturer Part Number: TPS73030DBVT; Value: TPS73030; Manufacturer Link: http://www.ti.com/general/docs/suppproductinfo.tsp?distId=10&gotoUrl=http%3A%2F%2Fwww.ti.com%2Flit%2Fgpn%2Ftps730; RoHS: 3; Temperature Range: -40°C ~ 125°C; Supplier 1: Digi-Key; Supplier 2: Mouser; Supplier Part Number 1: 296-17579-1-ND; Supplier Part Number 2: 595-TPS73030DBVT
footprint SOT-23-5
pins: 1 VIN, 2 GND, 3 EN, 4 BP, 5 VOUT

## TRANS NPN 40V 0.8A SOT23
designator Q?, comment BSR14
Bipolar (BJT) Transistor NPN 40V 800mA 300MHz 350mW Surface Mount SOT-23-3; Manufacturer: ON Semiconductor; Manufacturer Part Number: BSR14; Manufacturer Link: https://www.onsemi.com/pub/Collateral/BSR14-D.pdf; Value: BSR14; RoHS: ROHS3 Compliant; Temperature Range: -55°C ~ 150°C (TJ); Supplier 1: Digi-Key; Supplier 2: Mouser; Supplier Part Number 2: 512-BSR14; Supplier Part Number 1: BSR14CT-ND
footprint SOT23 (SOT23, 3-Leads, Body 3.0x2.5mm (max), Pitch 0.92mm, IPC Medium Density)
pins: 1 G, 2 S, 3 D

## TVS DIODE 5.25VWM 17VC
designator D?, comment USBLC6-2SC6
TVS DIODE 5.25VWM 17VC SOT23-6; Manufacturer: ST Electronics; Manufacturer Part Number: USBLC6-2SC6; Manufacturer Link: http://www.st.com/content/ccc/resource/technical/document/datasheet/06/1d/48/9c/6c/20/4a/b2/CD00050750.pdf/files/CD00050750.pdf/jcr:content/translations/en.CD00050750.pdf; Value: USBLC6-2SC6; Supplier 1: Digi-Key; Supplier 2: Mouser; Supplier 3: Future Electronics; Supplier Part Number 1: 497-5235-1-ND; Supplier Part Number 2: 511-USBLC6-2SC6; Supplier Part Number 3: 9748658
footprint HS-SOT23-6L 0.95 pitch (SOT23, 6-Leads, Body 2.92x2.80mm, Pitch 0.95mm, IPC Medium Density)
footprint SOT23-6L 0.95 pitch (SOT23, 6-Leads, Body 2.92x2.80mm, Pitch 0.95mm, IPC Medium Density)
pins: 1 I/O1 (io), 2 Gnd (power), 3 I/O2 (io), 4 I/O2 (io), 5 Vbus (power), 6 I/O1 (io)

## TVS DIODE 12VWM 19VC
designator D?, comment SD12C
TVS DIODE 12VWM 19VC SOD323; Manufacturer: ON Semiconductor; Manufacturer Part Number: SD12CT1G; Manufacturer Link: http://www.onsemi.com/pub_link/Collateral/SD12CT1-D.PDF; Value: SD12C; Supplier 1: Digi-Key; Supplier 2: Mouser; Supplier Part Number 1: SD12CT1GOSCT-ND; Supplier Part Number 2: 863-SD12CT1G
footprint SOD-323_SD12CT1 (SON Semi SD12CT1_ 2-Leads, Body 1.25x2.50mm, pitch 2.1mm)
footprint HS-SOD-323_SD12CT1 (ON Semi SD12CT1_ 2-Leads, Body 1.25x2.50mm, pitch 2.1mm)
pins: 1, 2

## USBULC6-2F3
designator D?
2-line Transil, (TVS), ultralow capacitance protection for high speed USB; Manuf_1: STM; ECCN_US/EU: EAR99/NEC; Ref St: 9151090; Provided: ST; Manuf_Part_1: USBULC6-2F3; Distrib: ST
footprint BGA4_1X1 (Footprint not found)
footprint BGA4_0R4_0R8X0R8
pins: A1, A2, B1, B2

## XFMR_MODULE VOIP SGL LAN 16SOIC
designator XFMR?, comment H2019NL
solation and Data Interface (Encapsulated) Pulse Transformer 1CT:1CT Surface Mount; Manufacturer: Pulse Electronics Network; Manufacturer Part Number: H2019NL; Manufacturer Link: https://media.digikey.com/pdf/Data%20Sheets/Pulse%20PDFs/10_100BASE-TX%20VoIP%20Module.pdf; Value: H2019NL; RoHS: Y; Temperature Range: 0°C~70°C; Supplier 1: Digi-Key; Supplier 2: Mouser; Supplier Part Number 1: 553-1333-5-ND; Supplier Part Number 2: 673-H2019NL
pins: 1 td+, 2 tct, 3 td-, 4 nc_4, 5 nc_5, 6 rd+, 7 rct, 8 rd-, 9 rx-, 10 rxct, 11 rx1+, 12 nc_12, 13 nc_13, 14 tx1-, 15 txct, 16 tx1+

## XTAL_32.768KHZ 6PF SMD
designator X?, comment 32.768kHz
32.768kHz  Crystal 6pF 70 kOhms 2-SMD, No Lead; Manufacturer: NDK America, Inc.; Manufacturer Part Number: NX3215SA-32.768KHZ-EXS00A-MU00525; Manufacturer Link: https://www.ndk.com/images/products/catalog/c_NX3215SA_e.pdf; Value: 32.768kHz; RoHS: Y; Temperature Range: -40°C ~ 85°C; Supplier 1: Digi-Key; Supplier Part Number 1: 644-1386-1-ND
footprint XTAL_SMD-2
footprint HS-XTAL_SMD-2 (HS version (+0.5mm pads) - 2pads  3215)
pins: 1, 2